# Altium schematic symbol library Optocoupler1.SchLib: 1 symbol
Pins are listed as number, name and electrical type; pins without a type are passive.

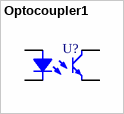
[diagram p0: symbol Optocoupler1]

## Optocoupler1
designator U?
Part Number: PC817X2NIP1B; Additioner: M.Moghimi; Adding Time: 1400/06/19
footprint PC817 SMD
pins: 1, 2, 3, 4